# Altium footprint library AD9172+K7.PcbLib: 77 footprints (part 1 of 5)
Each footprint in its own frame and in the unit in brackets; x right, y up, seen from the top. Pads: shape width x height; smd on the part's side, far side on the other; paste and mask are expansions set on the pad; w line width, h text height; cw(c..) or ccw(c..) is an arc to the next point about the centre after c.
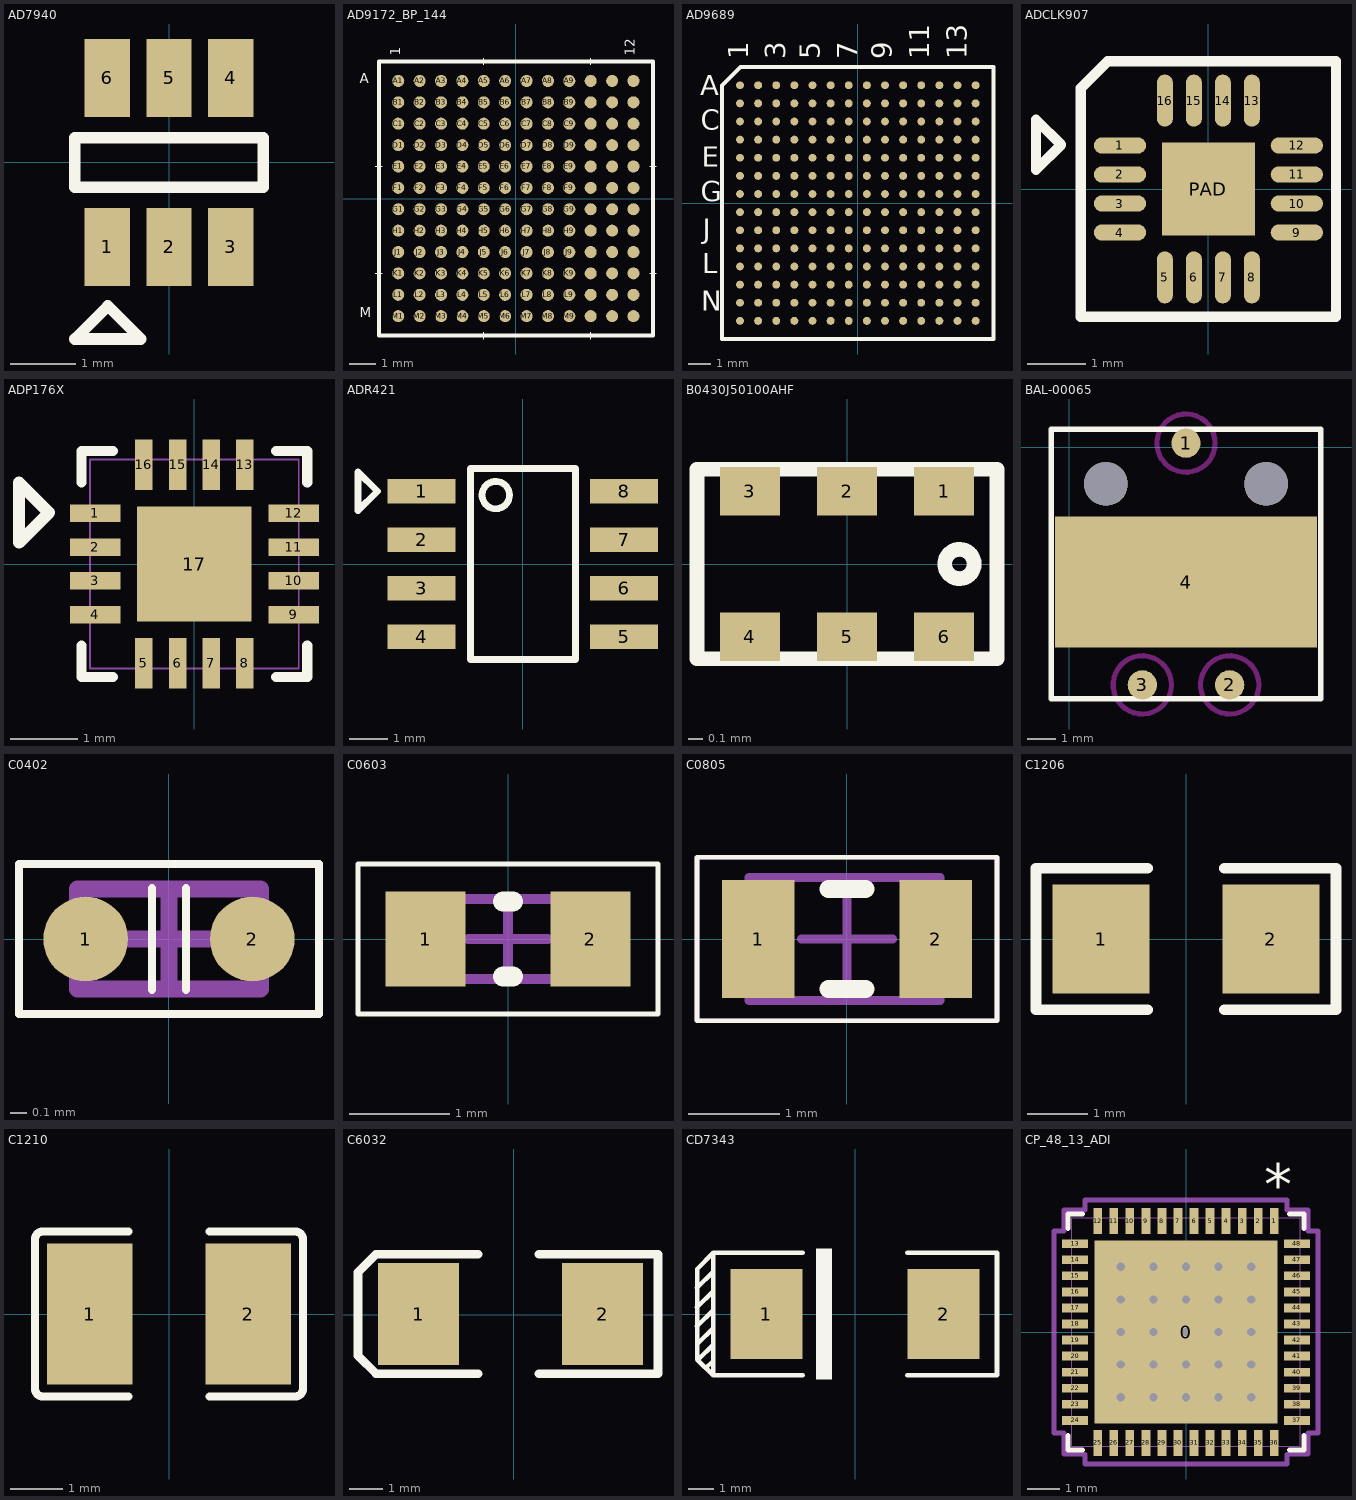
[diagram p0: the footprints below, top view; thin cyan lines are the x and y axes]

## AD7940 [mm]
pads (6):
  rect 0.7x1.2 smd: 1(-0.95,-1.3) 2(0,-1.3) 3(0.95,-1.3) 4(0.95,1.3) 5(0,1.3) 6(-0.95,1.3)
Top Overlay:
  lines w0.178: -1.45,-0.381 1.45,-0.381 1.45,0.381 -1.45,0.381 -1.45,-0.381 ; -1.448,-2.718 -0.94,-2.21 -0.432,-2.718 -1.448,-2.718

## AD9172_BP_144 [mm]
pads (144):
  round 0.45 smd: A1(-4.4,4.4) A2(-3.6,4.4) A3(-2.8,4.4) A4(-2,4.4) A5(-1.2,4.4) A6(-0.4,4.4) A7(0.4,4.4) A8(1.2,4.4) A9(2,4.4) A10(2.8,4.4) A11(3.6,4.4) A12(4.4,4.4) B1(-4.4,3.6) B2(-3.6,3.6) B3(-2.8,3.6) B4(-2,3.6) B5(-1.2,3.6) B6(-0.4,3.6) B7(0.4,3.6) B8(1.2,3.6) B9(2,3.6) B10(2.8,3.6) B11(3.6,3.6) B12(4.4,3.6) C1(-4.4,2.8) C2(-3.6,2.8) C3(-2.8,2.8) C4(-2,2.8) C5(-1.2,2.8) C6(-0.4,2.8) C7(0.4,2.8) C8(1.2,2.8) C9(2,2.8) C10(2.8,2.8) C11(3.6,2.8) C12(4.4,2.8) D1(-4.4,2) D2(-3.6,2) D3(-2.8,2) D4(-2,2) D5(-1.2,2) D6(-0.4,2) D7(0.4,2) D8(1.2,2) D9(2,2) D10(2.8,2) D11(3.6,2) D12(4.4,2) E1(-4.4,1.2) E2(-3.6,1.2) E3(-2.8,1.2) E4(-2,1.2) E5(-1.2,1.2) E6(-0.4,1.2) E7(0.4,1.2) E8(1.2,1.2) E9(2,1.2) E10(2.8,1.2) E11(3.6,1.2) E12(4.4,1.2) F1(-4.4,0.4) F2(-3.6,0.4) F3(-2.8,0.4) F4(-2,0.4) F5(-1.2,0.4) F6(-0.4,0.4) F7(0.4,0.4) F8(1.2,0.4) F9(2,0.4) F10(2.8,0.4) F11(3.6,0.4) F12(4.4,0.4) G1(-4.4,-0.4) G2(-3.6,-0.4) G3(-2.8,-0.4) G4(-2,-0.4) G5(-1.2,-0.4) G6(-0.4,-0.4) G7(0.4,-0.4) G8(1.2,-0.4) G9(2,-0.4) G10(2.8,-0.4) G11(3.6,-0.4) G12(4.4,-0.4) H1(-4.4,-1.2) H2(-3.6,-1.2) H3(-2.8,-1.2) H4(-2,-1.2) H5(-1.2,-1.2) H6(-0.4,-1.2) H7(0.4,-1.2) H8(1.2,-1.2) H9(2,-1.2) H10(2.8,-1.2) H11(3.6,-1.2) H12(4.4,-1.2) J1(-4.4,-2) J2(-3.6,-2) J3(-2.8,-2) J4(-2,-2) J5(-1.2,-2) J6(-0.4,-2) J7(0.4,-2) J8(1.2,-2) J9(2,-2) J10(2.8,-2) J11(3.6,-2) J12(4.4,-2) K1(-4.4,-2.8) K2(-3.6,-2.8) K3(-2.8,-2.8) K4(-2,-2.8) K5(-1.2,-2.8) K6(-0.4,-2.8) K7(0.4,-2.8) K8(1.2,-2.8) K9(2,-2.8) K10(2.8,-2.8) K11(3.6,-2.8) K12(4.4,-2.8) L1(-4.4,-3.6) L2(-3.6,-3.6) L3(-2.8,-3.6) L4(-2,-3.6) L5(-1.2,-3.6) L6(-0.4,-3.6) L7(0.4,-3.6) L8(1.2,-3.6) L9(2,-3.6) L10(2.8,-3.6) L11(3.6,-3.6) L12(4.4,-3.6) M1(-4.4,-4.4) M2(-3.6,-4.4) M3(-2.8,-4.4) M4(-2,-4.4) M5(-1.2,-4.4) M6(-0.4,-4.4) M7(0.4,-4.4) M8(1.2,-4.4) M9(2,-4.4) M10(2.8,-4.4) M11(3.6,-4.4) M12(4.4,-4.4)
Top Overlay:
  lines w0.025: -5.254,-2.8 -5,-2.8 ; -5.254,1.2 -5,1.2 ; -1.2,-5.254 -1.2,-5 ; -1.2,5 -1.2,5.254 ; 2.8,-5.254 2.8,-5 ; 2.8,5 2.8,5.254 ; 5,-2.8 5.254,-2.8 ; 5,1.2 5.254,1.2
  lines w0.152: -5.127,-5.127 5.127,-5.127 5.127,5.127 -5.127,5.127 -5.127,-5.127
  text "A" at -5.842,4.191 h0.64
  text "M" at -5.842,-4.572 h0.64
  text "1" at -4.191,5.334 h0.64
  text "12" at 4.572,5.334 h0.64

## AD9689 [mm]
pads (196):
  round 0.35 smd: A1(-5.2,5.2) A2(-4.4,5.2) A3(-3.6,5.2) A4(-2.8,5.2) A5(-2,5.2) A6(-1.2,5.2) A7(-0.4,5.2) A8(0.4,5.2) A9(1.2,5.2) A10(2,5.2) A11(2.8,5.2) A12(3.6,5.2) A13(4.4,5.2) A14(5.2,5.2) B1(-5.2,4.4) B2(-4.4,4.4) B3(-3.6,4.4) B4(-2.8,4.4) B5(-2,4.4) B6(-1.2,4.4) B7(-0.4,4.4) B8(0.4,4.4) B9(1.2,4.4) B10(2,4.4) B11(2.8,4.4) B12(3.6,4.4) B13(4.4,4.4) B14(5.2,4.4) C1(-5.2,3.6) C2(-4.4,3.6) C3(-3.6,3.6) C4(-2.8,3.6) C5(-2,3.6) C6(-1.2,3.6) C7(-0.4,3.6) C8(0.4,3.6) C9(1.2,3.6) C10(2,3.6) C11(2.8,3.6) C12(3.6,3.6) C13(4.4,3.6) C14(5.2,3.6) D1(-5.2,2.8) D2(-4.4,2.8) D3(-3.6,2.8) D4(-2.8,2.8) D5(-2,2.8) D6(-1.2,2.8) D7(-0.4,2.8) D8(0.4,2.8) D9(1.2,2.8) D10(2,2.8) D11(2.8,2.8) D12(3.6,2.8) D13(4.4,2.8) D14(5.2,2.8) E1(-5.2,2) E2(-4.4,2) E3(-3.6,2) E4(-2.8,2) E5(-2,2) E6(-1.2,2) E7(-0.4,2) E8(0.4,2) E9(1.2,2) E10(2,2) E11(2.8,2) E12(3.6,2) E13(4.4,2) E14(5.2,2) F1(-5.2,1.2) F2(-4.4,1.2) F3(-3.6,1.2) F4(-2.8,1.2) F5(-2,1.2) F6(-1.2,1.2) F7(-0.4,1.2) F8(0.4,1.2) F9(1.2,1.2) F10(2,1.2) F11(2.8,1.2) F12(3.6,1.2) F13(4.4,1.2) F14(5.2,1.2) G1(-5.2,0.4) G2(-4.4,0.4) G3(-3.6,0.4) G4(-2.8,0.4) G5(-2,0.4) G6(-1.2,0.4) G7(-0.4,0.4) G8(0.4,0.4) G9(1.2,0.4) G10(2,0.4) G11(2.8,0.4) G12(3.6,0.4) G13(4.4,0.4) G14(5.2,0.4) H1(-5.2,-0.4) H2(-4.4,-0.4) H3(-3.6,-0.4) H4(-2.8,-0.4) H5(-2,-0.4) H6(-1.2,-0.4) H7(-0.4,-0.4) H8(0.4,-0.4) H9(1.2,-0.4) H10(2,-0.4) H11(2.8,-0.4) H12(3.6,-0.4) H13(4.4,-0.4) H14(5.2,-0.4) J1(-5.2,-1.2) J2(-4.4,-1.2) J3(-3.6,-1.2) J4(-2.8,-1.2) J5(-2,-1.2) J6(-1.2,-1.2) J7(-0.4,-1.2) J8(0.4,-1.2) J9(1.2,-1.2) J10(2,-1.2) J11(2.8,-1.2) J12(3.6,-1.2) J13(4.4,-1.2) J14(5.2,-1.2) K1(-5.2,-2) K2(-4.4,-2) K3(-3.6,-2) K4(-2.8,-2) K5(-2,-2) K6(-1.2,-2) K7(-0.4,-2) K8(0.4,-2) K9(1.2,-2) K10(2,-2) K11(2.8,-2) K12(3.6,-2) K13(4.4,-2) K14(5.2,-2) L1(-5.2,-2.8) L2(-4.4,-2.8) L3(-3.6,-2.8) L4(-2.8,-2.8) L5(-2,-2.8) L6(-1.2,-2.8) L7(-0.4,-2.8) L8(0.4,-2.8) L9(1.2,-2.8) L10(2,-2.8) L11(2.8,-2.8) L12(3.6,-2.8) L13(4.4,-2.8) L14(5.2,-2.8) M1(-5.2,-3.6) M2(-4.4,-3.6) M3(-3.6,-3.6) M4(-2.8,-3.6) M5(-2,-3.6) M6(-1.2,-3.6) M7(-0.4,-3.6) M8(0.4,-3.6) M9(1.2,-3.6) M10(2,-3.6) M11(2.8,-3.6) M12(3.6,-3.6) M13(4.4,-3.6) M14(5.2,-3.6) N1(-5.2,-4.4) N2(-4.4,-4.4) N3(-3.6,-4.4) N4(-2.8,-4.4) N5(-2,-4.4) N6(-1.2,-4.4) N7(-0.4,-4.4) N8(0.4,-4.4) N9(1.2,-4.4) N10(2,-4.4) N11(2.8,-4.4) N12(3.6,-4.4) N13(4.4,-4.4) N14(5.2,-4.4) P1(-5.2,-5.2) P2(-4.4,-5.2) P3(-3.6,-5.2) P4(-2.8,-5.2) P5(-2,-5.2) P6(-1.2,-5.2) P7(-0.4,-5.2) P8(0.4,-5.2) P9(1.2,-5.2) P10(2,-5.2) P11(2.8,-5.2) P12(3.6,-5.2) P13(4.4,-5.2) P14(5.2,-5.2)
Top Overlay:
  lines w0.178: -6,-6 -6,5.182 -5.182,6 -5.156,6 6,6 6,-6 -6,-6
  text "1" at -4.846,6.353 h0.89
  text "J" at -6.837,-1.58 h0.89
  text "A" at -6.953,4.769 h0.89
  text "C" at -6.934,3.245 h0.89
  text "E" at -6.895,1.594 h0.89
  text "G" at -6.934,0.07 h0.89
  text "L" at -6.876,-3.105 h0.89
  text "N" at -6.915,-4.756 h0.89
  text "3" at -3.195,6.353 h0.89
  text "13" at 4.806,6.353 h0.89
  text "11" at 3.155,6.353 h0.89
  text "9" at 1.504,6.353 h0.89
  text "7" at -0.02,6.353 h0.89
  text "5" at -1.671,6.353 h0.89

## ADCLK907 [mm]
pads (17):
  oval 0.9x0.28 smd: 1(-1.524,0.75) 2(-1.524,0.25) 3(-1.524,-0.25) 4(-1.524,-0.75) 9(1.524,-0.75) 10(1.524,-0.25) 11(1.524,0.25) 12(1.524,0.75)
  oval 0.28x0.9 smd: 5(-0.75,-1.524) 6(-0.25,-1.524) 7(0.25,-1.524) 8(0.75,-1.524) 13(0.75,1.524) 14(0.25,1.524) 15(-0.25,1.524) 16(-0.75,1.524)
  rect 1.6x1.6 smd: PAD(0,0)
Top Overlay:
  lines w0.178: -2.972,0.33 -2.972,1.194 -2.54,0.762 -2.972,0.33 ; -2.2,-2.2 -2.2,1.737 -2.159,1.778 -1.737,2.2 2.2,2.2 2.2,-2.2 -2.2,-2.2

## ADP176X [mm]
pads (17):
  rect 0.75x0.26 smd paste+0: 1(-1.475,0.75) 2(-1.475,0.25) 3(-1.475,-0.25) 4(-1.475,-0.75) 9(1.475,-0.75) 10(1.475,-0.25) 11(1.475,0.25) 12(1.475,0.75)
  rect 0.26x0.75 smd paste+0: 5(-0.75,-1.475) 6(-0.25,-1.475) 7(0.25,-1.475) 8(0.75,-1.475) 13(0.75,1.475) 14(0.25,1.475) 15(-0.25,1.475) 16(-0.75,1.475)
  rect 1.7x1.7 smd: 17(0,0)
Top Overlay:
  lines w0.152: -1.677,-1.213 -1.677,-1.677 -1.213,-1.677 ; -1.677,1.213 -1.677,1.677 -1.213,1.677 ; 1.213,-1.677 1.677,-1.677 1.677,-1.213 ; 1.213,1.677 1.677,1.677 1.677,1.213
  lines w0.178: -2.603,0.318 -2.159,0.762 -2.603,1.206 -2.603,0.318
Mechanical 13:
  lines w0.025: -1.55,-1.55 1.55,-1.55 1.55,1.55 -1.55,1.55 -1.55,-1.55 ; -1.55,-0.9 -1.55,-0.6 -1.55,-0.9 ; -1.55,-0.4 -1.55,-0.1 -1.55,-0.4 ; -1.55,0.1 -1.55,0.4 -1.55,0.1 ; -1.55,0.6 -1.55,0.9 -1.55,0.6 ; -0.9,-1.55 -0.6,-1.55 -0.9,-1.55 ; -0.9,1.55 -0.6,1.55 -0.9,1.55 ; -0.4,-1.55 -0.1,-1.55 -0.4,-1.55 ; -0.4,1.55 -0.1,1.55 -0.4,1.55 ; 0.1,-1.55 0.4,-1.55 0.1,-1.55 ; 0.1,1.55 0.4,1.55 0.1,1.55 ; 0.6,-1.55 0.9,-1.55 0.6,-1.55 ; 0.6,1.55 0.9,1.55 0.6,1.55 ; 1.55,-0.9 1.55,-0.6 1.55,-0.9 ; 1.55,-0.4 1.55,-0.1 1.55,-0.4 ; 1.55,0.1 1.55,0.4 1.55,0.1 ; 1.55,0.6 1.55,0.9 1.55,0.6
  text "*" at -1.005,0.591 h0.89

## ADR421 [mm]
pads (8):
  rect 1.778x0.635 smd: 1(-2.65,1.905) 2(-2.65,0.635) 3(-2.65,-0.635) 4(-2.65,-1.905) 5(2.65,-1.905) 6(2.65,-0.635) 7(2.65,0.635) 8(2.65,1.905)
Top Overlay:
  circle w0.178: c-0.709,1.805 r0.359
  lines w0.178: -4.318,1.397 -4.318,2.413 -3.81,1.905 -4.318,1.397 ; -1.372,-2.5 1.377,-2.5 1.377,2.5 -1.372,2.5 -1.372,-2.5

## B0430J50100AHF [mm]
pads (6):
  rect 0.41x0.33 smd: 1(0.66,0.495) 2(0,0.495) 3(-0.66,0.495) 4(-0.66,-0.495) 5(0,-0.495) 6(0.66,-0.495)
Top Overlay:
  circle w0.1: c0.765,0 r0.1
  lines w0.1: -1.02,-0.645 -1.02,0.645 1.02,0.645 1.02,-0.645 -1.02,-0.645

## BAL-00065 [mil]
pads (6):
  round 40.2 smd mask+4: 1(160,6) 2(220,-326) 3(100,-326)
  rect 360x180 smd mask+4: 4(160,-185)
  round 60 hole 60 unplated mask+4: ""(50,-50) ""(270,-50)
Top Overlay:
  lines w7: -25,-345 -25,25 345,25 345,-345 -25,-345
Keep-Out Layer:
  circle w7: c220,-326 r40
  circle w7: c100,-326 r40
  circle w7: c160,6 r40
Drill Drawing:
  lines w7: 0,-320 0,0 320,0 320,-320 0,-320

## C0402 [mil]
height 11.81
pads (2):
  round 20 smd: 1(-19.68,0) 2(19.68,0)
Top Overlay:
  lines w1.97: -4,-12 -4,0 -4,12 ; 4,-12 4,0 4,12 ; -35.43,-17.72 -35.43,17.72 35.43,17.72 35.43,-17.72 -35.43,-17.72
Mechanical 13:
  lines w3.94: -21.65,-11.81 21.65,-11.81 21.65,11.81 -21.65,11.81 -21.65,-11.81
Mechanical 15:
  lines w1.97: -35.43,-17.72 -35.43,17.72 35.43,17.72 35.43,-17.72 -35.43,-17.72
  lines w3.94: -9.84,0 9.84,0 ; 0,-9.84 0,9.84
3D body "C 0402.STEP": height 20.68, standoff 0.21, extent -19.68,-10.23 19.69,10.24

## C0603 [mm]
height 1.2
pads (2):
  rect 0.8x0.95 smd: 1(-0.825,0) 2(0.825,0)
Top Overlay:
  lines w0.05: -1.5,-0.75 -1.5,0.75 1.5,0.75 1.5,-0.75 -1.5,-0.75
  lines w0.2: -0.05,-0.375 0.05,-0.375 ; -0.05,0.375 0.05,0.375
Mechanical 13:
  lines w0.1: -0.8,-0.4 -0.8,0.4 0.8,0.4 0.8,-0.4 -0.8,-0.4
Mechanical 15:
  lines w0.1: -0.4,0 0.4,0 ; 0,-0.4 0,0.4
3D body "C 0603.STEP": height 0.81, standoff -0.01, extent -0.8,-0.41 0.8,0.41

## C0805 [mm]
height 0.5
pads (2):
  rect 0.8x1.3 smd: 1(-0.975,0) 2(0.975,0)
Top Overlay:
  lines w0.05: -1.65,-0.9 -1.65,0.9 1.65,0.9 1.65,-0.9 -1.65,-0.9
  lines w0.2: -0.2,-0.55 0.2,-0.55 ; -0.2,0.55 0.2,0.55
Mechanical 13:
  lines w0.1: -1.075,-0.675 1.025,-0.675 1.025,0.675 -1.075,0.675 -1.075,-0.675
Mechanical 15:
  lines w0.05: -1.65,-0.9 -1.65,0.9 1.65,0.9 1.65,-0.9 -1.65,-0.9
  lines w0.1: -0.5,0 0.5,0 ; 0,-0.5 0,0.5
3D body "C 0805.STEP": height 0.51, standoff -0.01, extent -1,-0.61 1,0.61

## C1206 [mm]
pads (2):
  rect 1.6x1.8 smd: 1(-1.4,0) 2(1.4,0)
Top Overlay:
  lines w0.178: -0.635,-1.168 -2.476,-1.168 -2.476,1.168 -0.635,1.168 ; 0.635,-1.168 2.476,-1.168 2.476,1.168 0.635,1.168
3D body "C 1206.STEP": height 1.21, standoff -0.01, extent -1.6,-0.81 1.6,0.81

## C1210 [mm]
pads (2):
  rect 1.635x2.7 smd: 1(-1.517,0) 2(1.517,0)
Top Overlay:
  lines w0.152: -0.776,-1.579 -2.411,-1.579 cw(c-2.411,-1.426) -2.564,-1.426 -2.564,1.426 cw(c-2.411,1.426) -2.411,1.579 -0.776,1.579 ; 0.776,-1.579 2.411,-1.579 ccw(c2.411,-1.426) 2.564,-1.426 2.564,1.426 ccw(c2.411,1.426) 2.411,1.579 0.776,1.579
Top Paste:
  region: 0.7,-1.25 0.7,-0.559 0.8,-0.459 1.156,-0.459 1.256,-0.359 1.256,0.359 1.156,0.459 0.8,0.459 0.7,0.559 0.7,1.25 0.8,1.35 2.235,1.35 2.335,1.25 2.335,-1.25 2.235,-1.35 0.8,-1.35
  region: -0.7,-1.25 -0.7,-0.559 -0.8,-0.459 -1.156,-0.459 -1.256,-0.359 -1.256,0.359 -1.156,0.459 -0.8,0.459 -0.7,0.559 -0.7,1.25 -0.8,1.35 -2.235,1.35 -2.335,1.25 -2.335,-1.25 -2.235,-1.35 -0.8,-1.35

## C6032 [mil]
height 98.43
pads (2):
  rect 95x120 smd: 1(-112,1) 2(104,1)
Top Overlay:
  lines w10: -42,-69 -156,-69 -162,-69 -183,-48 -183,50 -163,70 -162,71 -42,71 ; 29,-69 169,-69 169,71 29,71
3D body "TAJ-C.STEP": height 102.36, standoff 0, extent -121.11,-61.99 115.11,63.99

## CD7343 [mm]
pads (2):
  rect 2.8x3.5 smd: 1(-3.45,0) 2(3.45,0)
Top Overlay:
  rectangle: -1.524,-2.54 -0.889,2.54
  lines w0.178: -6.151,-0.474 -5.524,0.152 ; -6.151,0.263 -5.524,0.889 ; -6.151,1.025 -5.524,1.651 ; -6.092,-1.761 -5.524,-1.194 ; -6.092,-1.126 -5.524,-0.559 ; -5.817,-2.108 -5.524,-1.829 ; -2.032,-2.388 -5.524,-2.388 ; -2.032,2.388 -5.524,2.388 ; 2.032,-2.388 5.524,-2.388 5.524,2.388 2.032,2.388 ; -5.524,-2.388 -5.524,2.388 ; -5.524,-2.388 -6.147,-1.778 -6.147,1.753 -5.524,2.388

## CP_48_13_ADI [mm]
pads (49):
  rect 5.7x5.7 smd paste+0 mask+0: 0(0,0)
  rect 0.275x0.805 smd paste+0 mask+0: 1(2.75,3.452) 2(2.25,3.452) 3(1.75,3.452) 4(1.25,3.452) 5(0.75,3.452) 6(0.25,3.452) 7(-0.25,3.452) 8(-0.75,3.452) 9(-1.25,3.452) 10(-1.75,3.452) 11(-2.25,3.452) 12(-2.75,3.452) 25(-2.75,-3.452) 26(-2.25,-3.452) 27(-1.75,-3.452) 28(-1.25,-3.452) 29(-0.75,-3.452) 30(-0.25,-3.452) 31(0.25,-3.452) 32(0.75,-3.452) 33(1.25,-3.452) 34(1.75,-3.452) 35(2.25,-3.452) 36(2.75,-3.452)
  rect 0.805x0.275 smd paste+0 mask+0: 13(-3.452,2.75) 14(-3.452,2.25) 15(-3.452,1.75) 16(-3.452,1.25) 17(-3.452,0.75) 18(-3.452,0.25) 19(-3.452,-0.25) 20(-3.452,-0.75) 21(-3.452,-1.25) 22(-3.452,-1.75) 23(-3.452,-2.25) 24(-3.452,-2.75) 37(3.452,-2.75) 38(3.452,-2.25) 39(3.452,-1.75) 40(3.452,-1.25) 41(3.452,-0.75) 42(3.452,-0.25) 43(3.452,0.25) 44(3.452,0.75) 45(3.452,1.25) 46(3.452,1.75) 47(3.452,2.25) 48(3.452,2.75)
via -2.032,2.032 diameter 0.457 hole 0.254
via -2.032,-2.032 diameter 0.457 hole 0.254
via -2.032,-1.016 diameter 0.457 hole 0.254
via -2.032,1.016 diameter 0.457 hole 0.254
via -1.016,2.032 diameter 0.457 hole 0.254
via -1.016,-2.032 diameter 0.457 hole 0.254
via -1.016,-1.016 diameter 0.457 hole 0.254
via -1.016,1.016 diameter 0.457 hole 0.254
via 2.032,2.032 diameter 0.457 hole 0.254
via 2.032,-2.032 diameter 0.457 hole 0.254
via 2.032,-1.016 diameter 0.457 hole 0.254
via 2.032,1.016 diameter 0.457 hole 0.254
via 1.016,2.032 diameter 0.457 hole 0.254
via 1.016,-2.032 diameter 0.457 hole 0.254
via 1.016,-1.016 diameter 0.457 hole 0.254
via 1.016,1.016 diameter 0.457 hole 0.254
via -2.032,0 diameter 0.457 hole 0.254
via 2.032,0 diameter 0.457 hole 0.254
via 1.016,0 diameter 0.457 hole 0.254
via -1.016,0 diameter 0.457 hole 0.254
via 0,2.032 diameter 0.457 hole 0.254
via 0,-2.032 diameter 0.457 hole 0.254
via 0,-1.016 diameter 0.457 hole 0.254
via 0,1.016 diameter 0.457 hole 0.254
via 0,0 diameter 0.457 hole 0.254
Top Overlay:
  lines w0.152: -3.677,-3.22 -3.677,-3.677 -3.22,-3.677 ; -3.677,3.22 -3.677,3.677 -3.22,3.677 ; 3.22,-3.677 3.677,-3.677 3.677,-3.22 ; 3.22,3.677 3.677,3.677 3.677,3.22
  text "*" at 2.432,3.96 h1.27
Top Paste:
  region: 2.75,2.75 1.525,2.75 1.525,1.525 2.75,1.525
  region: 2.75,1.325 1.525,1.325 1.525,0.1 2.75,0.1
  region: 1.325,2.75 0.1,2.75 0.1,1.525 1.325,1.525
  region: 1.325,1.325 0.1,1.325 0.1,0.1 1.325,0.1
  region: 2.75,-0.1 1.525,-0.1 1.525,-1.325 2.75,-1.325
  region: 1.325,-0.1 0.1,-0.1 0.1,-1.325 1.325,-1.325
  region: 1.325,-1.525 0.1,-1.525 0.1,-2.75 1.325,-2.75
  region: 2.75,-1.525 1.525,-1.525 1.525,-2.75 2.75,-2.75
  region: -1.525,2.75 -2.75,2.75 -2.75,1.525 -1.525,1.525
  region: -0.1,2.75 -1.325,2.75 -1.325,1.525 -0.1,1.525
  region: -1.525,1.325 -2.75,1.325 -2.75,0.1 -1.525,0.1
  region: -0.1,1.325 -1.325,1.325 -1.325,0.1 -0.1,0.1
  region: -1.525,-0.1 -2.75,-0.1 -2.75,-1.325 -1.525,-1.325
  region: -0.1,-0.1 -1.325,-0.1 -1.325,-1.325 -0.1,-1.325
  region: -0.1,-1.525 -1.325,-1.525 -1.325,-2.75 -0.1,-2.75
  region: -1.525,-1.525 -2.75,-1.525 -2.75,-2.75 -1.525,-2.75
Mechanical 13:
  lines w0.025: -3.55,-3.55 3.55,-3.55 3.55,3.55 -3.55,3.55 -3.55,-3.55 ; -3.55,-2.9 -3.55,-2.6 -3.55,-2.9 ; -3.55,-2.4 -3.55,-2.1 -3.55,-2.4 ; -3.55,-1.9 -3.55,-1.6 -3.55,-1.9 ; -3.55,-1.4 -3.55,-1.1 -3.55,-1.4 ; -3.55,-0.9 -3.55,-0.6 -3.55,-0.9 ; -3.55,-0.4 -3.55,-0.1 -3.55,-0.4 ; -3.55,0.1 -3.55,0.4 -3.55,0.1 ; -3.55,0.6 -3.55,0.9 -3.55,0.6 ; -3.55,1.1 -3.55,1.4 -3.55,1.1 ; -3.55,1.6 -3.55,1.9 -3.55,1.6 ; -3.55,2.1 -3.55,2.4 -3.55,2.1 ; -3.55,2.6 -3.55,2.9 -3.55,2.6 ; -2.9,-3.55 -2.6,-3.55 -2.9,-3.55 ; -2.9,3.55 -2.6,3.55 -2.9,3.55 ; -2.4,-3.55 -2.1,-3.55 -2.4,-3.55 ; -2.4,3.55 -2.1,3.55 -2.4,3.55 ; -1.9,-3.55 -1.6,-3.55 -1.9,-3.55 ; -1.9,3.55 -1.6,3.55 -1.9,3.55 ; -1.4,-3.55 -1.1,-3.55 -1.4,-3.55 ; -1.4,3.55 -1.1,3.55 -1.4,3.55 ; -0.9,-3.55 -0.6,-3.55 -0.9,-3.55 ; -0.9,3.55 -0.6,3.55 -0.9,3.55 ; -0.4,-3.55 -0.1,-3.55 -0.4,-3.55 ; -0.4,3.55 -0.1,3.55 -0.4,3.55 ; 0.1,-3.55 0.4,-3.55 0.1,-3.55 ; 0.1,3.55 0.4,3.55 0.1,3.55 ; 0.6,-3.55 0.9,-3.55 0.6,-3.55 ; 0.6,3.55 0.9,3.55 0.6,3.55 ; 1.1,-3.55 1.4,-3.55 1.1,-3.55 ; 1.1,3.55 1.4,3.55 1.1,3.55 ; 1.6,-3.55 1.9,-3.55 1.6,-3.55 ; 1.6,3.55 1.9,3.55 1.6,3.55 ; 2.1,-3.55 2.4,-3.55 2.1,-3.55 ; 2.1,3.55 2.4,3.55 2.1,3.55 ; 2.6,-3.55 2.9,-3.55 2.6,-3.55 ; 2.6,3.55 2.9,3.55 2.6,3.55 ; 3.55,-2.9 3.55,-2.6 3.55,-2.9 ; 3.55,-2.4 3.55,-2.1 3.55,-2.4 ; 3.55,-1.9 3.55,-1.6 3.55,-1.9 ; 3.55,-1.4 3.55,-1.1 3.55,-1.4 ; 3.55,-0.9 3.55,-0.6 3.55,-0.9 ; 3.55,-0.4 3.55,-0.1 3.55,-0.4 ; 3.55,0.1 3.55,0.4 3.55,0.1 ; 3.55,0.6 3.55,0.9 3.55,0.6 ; 3.55,1.1 3.55,1.4 3.55,1.1 ; 3.55,1.6 3.55,1.9 3.55,1.6 ; 3.55,2.1 3.55,2.4 3.55,2.1 ; 3.55,2.6 3.55,2.9 3.55,2.6
  text "*" at 2.591,2.983 h0.64
Mechanical 15:
  lines w0.152: -4.109,-3.141 -3.804,-3.141 -3.804,-3.804 -3.141,-3.804 -3.141,-4.109 3.141,-4.109 3.141,-3.804 3.804,-3.804 3.804,-3.141 4.109,-3.141 4.109,3.141 3.804,3.141 3.804,3.804 3.141,3.804 3.141,4.109 -3.141,4.109 -3.141,3.804 -3.804,3.804 -3.804,3.141 -4.109,3.141 -4.109,-3.141
3D body "CP_48_13_ADI.step": height 0.8, standoff 0, extent -3.55,-3.55 3.55,3.55